# Altium schematic symbol library neutrik.SchLib: 15 symbols
Pins are listed as number, name and electrical type; pins without a type are passive.

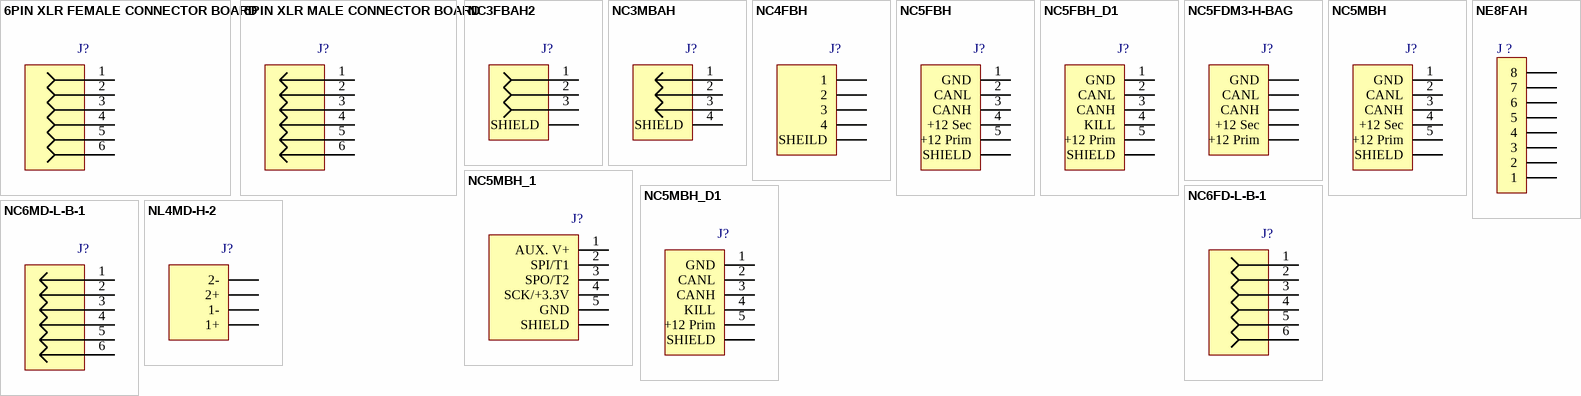
[diagram p0: symbols 6PIN XLR FEMALE CONNECTOR BOARD to NL4MD-H-2]

## 6PIN XLR FEMALE CONNECTOR BOARD
designator J?  (value not drawn)
SVP Creator: Brett Paulsen; Known Distributors: BP; ComponentLink1Description: Datasheet
footprint 6PIN_XLR_FEMALE_CONNECTOR_BOARD
pins: 1 "Wire Ground", 2, 3, 4, 5, 6

## 6PIN XLR MALE CONNECTOR BOARD
designator J?  (value not drawn)
SVP Creator: Brett Paulsen; Known Distributors: BP; ComponentLink1Description: Datasheet
footprint 6PIN_XLR_MALE_CONNECTOR_BOARD
pins: 1 "Wire Ground", 2, 3, 4, 5, 6

## NC3FBAH2
designator J?  (value not drawn)
XLR 3 FEMALE; Manufacturer: Neutrik; SVP Creator: Nate Bolyard; Package: NC3FBAH2; Known Distributors: Neutrik; Manufacturer PN: NC3FBAH2; HelpURL: http://umnsvp-backup.dyndns.org/svn/centaurus2/datasheets/neutrik/PCB/NC3FBAH2.pdf; ComponentLink1URL: http://umnsvp-backup.dyndns.org/svn/centaurus2/datasheets/neutrik/PCB/NC3FBAH2.pdf; ComponentLink1Description: Datasheet
footprint NC3FBAH2 (XLR 3 FEMALE)
pins: 1 "Wire Ground", 2, 3, 4 SHIELD

## NC3MBAH
designator J?  (value not drawn)
XLR 3 MALE; Manufacturer: Neutrik; SVP Creator: Nate Bolyard; Package: NC3MBAH; Known Distributors: Neutrik; Manufacturer PN: NC3MBAH; HelpURL: http://umnsvp-backup.dyndns.org/svn/centaurus2/datasheets/neutrik/PCB/NC3MBAH.pdf; ComponentLink1URL: http://umnsvp-backup.dyndns.org/svn/centaurus2/datasheets/neutrik/PCB/NC3MBAH.pdf; ComponentLink1Description: Datasheet
footprint NC3MBAH (XLR 3 MALE)
pins: 1 "Wire Ground", 2, 3, 4 SHIELD

## NC4FBH
designator J?  (value not drawn)
XLR 4 FEMALE; Manufacturer: Neutrik; SVP Creator: Nate Bolyard; Package: NC4FBH; Known Distributors: Neutrik; Manufacturer PN: NC4FBH; HelpURL: http://umnsvp-backup.dyndns.org/svn/centaurus2/datasheets/neutrik/PCB/nc4fbh.pdf; ComponentLink1URL: http://umnsvp-backup.dyndns.org/svn/centaurus2/datasheets/neutrik/PCB/nc4fbh.pdf; ComponentLink1Description: Datasheet
footprint NC4FBH (XLR 4 FEMALE)
pins: 1 "Wire Ground", 2, 3, 4, 5 SHEILD

## NC5FBH
designator J?  (value not drawn)
C3 Bus Connector; Manufacturer: Neutrik; SVP Creator: Jonathan Nutzmann; Package: NC5FBH; Known Distributors: Neutrik; Manufacturer PN: NC5FBH; ComponentLink1Description: Datasheet
footprint NC5FBH (XLR 5 Female)
pins: 1 GND "Wire Ground", 2 CANL, 3 CANH, 4 +12 Sec, 5 +12 Prim, 6 SHIELD

## NC5FBH_D1
designator J?  (value not drawn)
D1 Bus Connector; Manufacturer: Neutrik; Manufacturer PN: NC5FBH; SVP Creator: Jonathan Nutzmann; Package: NC5FBH; Known Distributors: Neutrik; ComponentLink1Description: Datasheet
footprint NC5FBH (XLR 5 Female)
pins: 1 GND "Wire Ground", 2 CANL, 3 CANH, 4 KILL, 5 +12 Prim, 6 SHIELD

## NC5FDM3-H-BAG
designator J?  (value not drawn)
C3 Bus Connector (HIGH CURRENT); Manufacturer: Neutrik; SVP Creator: Nate Bolyard; Package: NC5FDM3-H-BAG; Known Distributors: Neutrik; Manufacturer PN: NC5FDM3-H-BAG; HelpURL: http://umnsvp-backup.dyndns.org/svn/centaurus2/datasheets/neutrik/PCB/NC5FDM3-H-BAG.pdf; ComponentLink1URL: http://umnsvp-backup.dyndns.org/svn/centaurus2/datasheets/neutrik/PCB/NC5FDM3-H-BAG.pdf; ComponentLink1Description: Datasheet
footprint NC5FDM3-H-BAG (XLR 5 FEMALE (HIGH CURRENT))
pins: 1 GND "Wire Ground", 2 CANL, 3 CANH, 4 +12 Sec, 5 +12 Prim

## NC5MBH
designator J?  (value not drawn)
C3 Bus Connector; Manufacturer: Neutrik; SVP Creator: Adam Shea; SVP Reviewer 1: Nate Bolyard; SVP Reviewer 2: Trevtron; Package: NC5MBH; Known Distributors: Neutrik; Manufacturer PN: NC5MBH; HelpURL: http://umnsvp-backup.dyndns.org/svn/centaurus2/datasheets/neutrik/PCB/NC5MBH.pdf; ComponentLink1URL: http://umnsvp-backup.dyndns.org/svn/centaurus2/datasheets/neutrik/PCB/NC5MBH.pdf; ComponentLink1Description: Datasheet
footprint NC5MBH (XLR 5 Male)
pins: 1 GND "Wire Ground", 2 CANL, 3 CANH, 4 +12 Sec, 5 +12 Prim, 6 SHIELD

## NC5MBH_1
designator J?  (value not drawn)
C3 Secondary Pack Connector; Manufacturer: Neutrik; Manufacturer PN: NC5MBH; SVP Creator: Matt Rogge; Package: NC5MBH; Known Distributors: Neutrik; HelpURL: http://umnsvp-backup.dyndns.org/svn/centaurus2/datasheets/neutrik/PCB/NC5MBH.pdf; ComponentLink1URL: http://umnsvp-backup.dyndns.org/svn/centaurus2/datasheets/neutrik/PCB/NC5MBH.pdf; ComponentLink1Description: Datasheet
footprint NC5MBH (XLR 5 Female)
pins: 1 AUX. V+, 2 SPI/T1, 3 SPO/T2, 4 SCK/+3.3V, 5 GND "Wire Ground", 6 SHIELD

## NC5MBH_D1
designator J?  (value not drawn)
D1 Bus Connector; Manufacturer: Neutrik; Manufacturer PN: NC5MBH; SVP Creator: Adam Shea; SVP Reviewer 1: Nate Bolyard; SVP Reviewer 2: Trevtron; Package: NC5MBH; Known Distributors: Neutrik; HelpURL: http://umnsvp-backup.dyndns.org/svn/centaurus2/datasheets/neutrik/PCB/NC5MBH.pdf; ComponentLink1URL: http://umnsvp-backup.dyndns.org/svn/centaurus2/datasheets/neutrik/PCB/NC5MBH.pdf; ComponentLink1Description: Datasheet
footprint NC5MBH (XLR 5 Male)
pins: 1 GND "Wire Ground", 2 CANL, 3 CANH, 4 KILL, 5 +12 Prim, 6 SHIELD

## NC6FD-L-B-1
designator J?  (value not drawn)
6 pin Female XLR; Manufacturer: Neutrik; SVP Creator: Brett Paulsen; Package: NC6FD-L-B-1; Known Distributors: Neutrik; Manufacturer PN: NC6FD-L-B-1; ComponentLink1URL: http://www.neutrik.com/en/xlr/dl-series/nc6fd-l-b-1; ComponentLink1Description: Datasheet
footprint NC6FD-L-B-1
pins: 1 "Wire Ground", 2, 3, 4, 5, 6

## NC6MD-L-B-1
designator J?  (value not drawn)
6 pin Male XLR; Manufacturer: Neutrik; SVP Creator: Brett Paulsen; Package: NC6MD-L-B-1; Known Distributors: Neutrik; Manufacturer PN: NC6MD-L-B-1; ComponentLink1URL: http://www.neutrik.com/en/xlr/dl-series/nc6md-l-b-1; ComponentLink1Description: Datasheet
footprint NC6MD-L-B-1
pins: 1 "Wire Ground", 2, 3, 4, 5, 6

## NE8FAH
designator J ?  (value not drawn)
RJ45; Manufacturer: Neutrik; SVP Creator: Evan Sundry; Known Distributors: Newark; Manufacturer PN: NE8FAH; Price: 4.62; HelpURL: http://umnsvp.dyndns.org/svn/centaurus2/datasheets/Driver%20Interface/RJ45.pdf; ComponentLink1URL: http://umnsvp.dyndns.org/svn/centaurus2/datasheets/Driver%20Interface/RJ45.pdf; ComponentLink1Description: Datasheet
footprint NE8FAH (RJ45)
pins: 1, 2, 3, 4, 5, 6, 7, 8

## NL4MD-H-2
designator J?  (value not drawn)
Speakon4; Manufacturer: Neutrik; SVP Creator: Evan Sundry; Package: NL4MD-H-2; Known Distributors: Neutrik; Manufacturer PN: NL4MD-H-2; ComponentLink1Description: Datasheet
footprint NL4MD-H-2 (speakON 4)
pins: 1+ (power), 1-, 2+, 2- "Wire Ground"